# Altium schematic symbol library SMPS_12V&5V Out.SCHLIB: 14 symbols
Pins are listed as number, name and electrical type; pins without a type are passive.

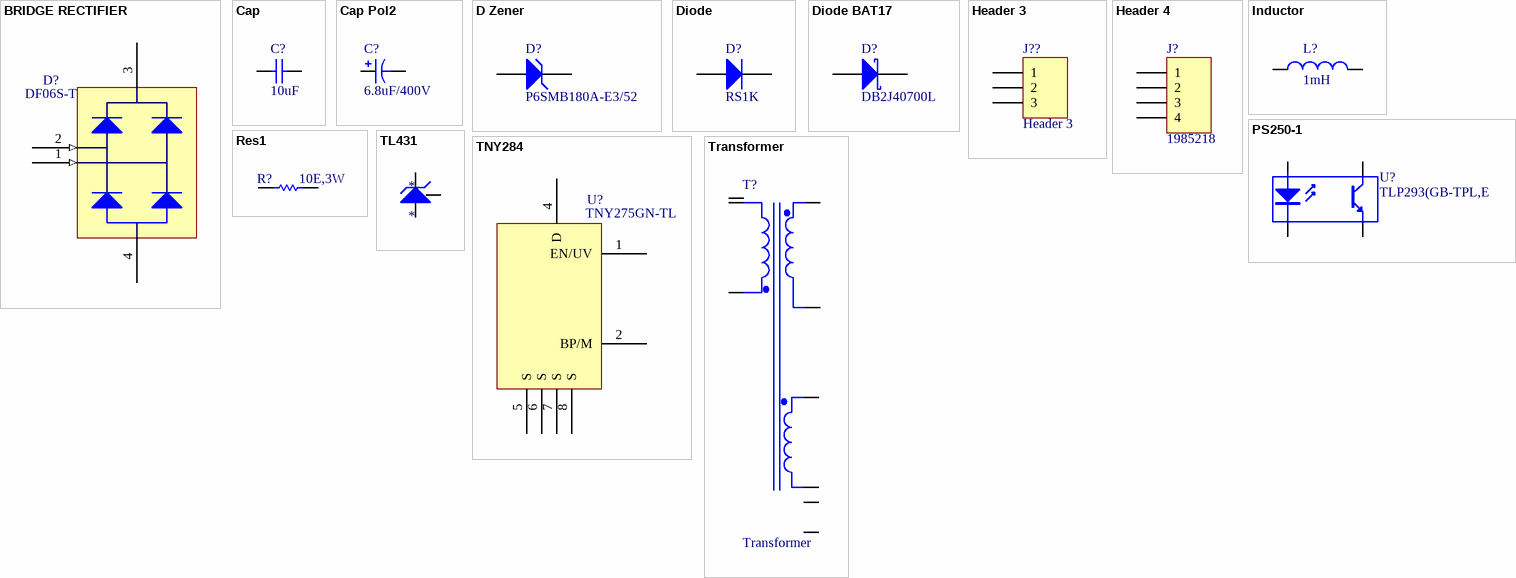
[diagram p0: symbols BRIDGE RECTIFIER to Transformer]

## BRIDGE RECTIFIER
designator D?, comment DF06S-T
RECT BRIDGE GPP 1A 600V DFS; Manufacturer: Diodes Incorporated; Diode Type: Single Phase; Supplier 1: Digi-Key; Supplier Part Number 1: DF06S-TDICT-ND; Manufacturer Part Number: DF06S-T; RoHS: RoHS Compliant; Category: Discrete Semiconductor Products; Stock 1: 67854; Pricing 1: 1=0.4, 10=0.345, 100=0.2573, 500=0.20216 (USD); Packaging: Cut Tape (CT); Part Status: Active; Voltage - Peak Reverse (Max): 600V; Current - DC Forward (If) (Max): 1A; Mounting Type: Surface Mount; Package / Case: 4-SMD, Gull Wing; Operating Temperature: -65°C ~ 150°C (TJ); Supplier Device Package: DF-S; ComponentLink1URL: http://www.diodes.com/_files/datasheets/ds17001.pdf; ComponentLink1Description: http://www.diodes.com/_files/datasheets/ds17001.pdf
footprint DF06S
pins: 1 (in), 2 (in), 3, 4

## Cap
designator C?, comment 10uF
CAP CER 10UF 16V X7R 1206; Manufacturer: TDK Corporation; Manufacturer Part Number: C3216X7R1C106K160AC; Tolerance: ±10%; Supplier 1: Digi-Key; Supplier Part Number 1: 445-4042-1-ND; RoHS: RoHS Compliant; Category: Capacitors; Stock 1: 270274; Pricing 1: 1=0.32, 10=0.222, 100=0.126, 500=0.08896, 1000=0.07785 (USD); Packaging: Cut Tape (CT); Part Status: Active; Voltage - Rated: 16V; Temperature Coefficient: X7R; Operating Temperature: -55°C ~ 125°C; Features: Low ESL; Ratings: -; Applications: General Purpose; Failure Rate: -; Mounting Type: Surface Mount, MLCC; Package / Case: 1206 (3216 Metric); Size / Dimension: 0.126" L x 0.063" W (3.20mm x 1.60mm); Height - Seated (Max): -; Thickness (Max): 0.071" (1.80mm); Lead Spacing: -; Lead Style: -; ComponentLink1URL: https://product.tdk.com/info/en/catalog/datasheets/mlcc_commercial_general_en.pdf; ComponentLink1Description: https://product.tdk.com/info/en/catalog/datasheets/mlcc_commercial_general_en.pdf
footprint R0805_2012 (0805 inch 2012 metric)
pins: 1, 2

## Cap Pol2
designator C?, comment 6.8uF/400V
CAP ALUM 6.8UF 20% 400V RADIAL; Manufacturer: Wurth Electronics Inc.; Manufacturer Part Number: 860021374009; Lifetime @ Temp.: 2000 Hrs @ 105°C; Polarization: Polar; Ripple Current - Low Frequency: 75mA @ 120Hz; Ripple Current - High Frequency: 127.5mA @ 100kHz; Supplier 1: Digi-Key; Supplier Part Number 1: 732-8887-1-ND; RoHS: RoHS Compliant; Category: Capacitors; Stock 1: 800; Pricing 1: 1=0.5, 50=0.427, 100=0.372, 250=0.331 (USD); Packaging: Cut Tape (CT); Part Status: Active; Tolerance: ±20%; ESR (Equivalent Series Resistance): -; Operating Temperature: -25°C ~ 105°C; Applications: General Purpose; Lead Spacing: 0.138" (3.50mm); Size / Dimension: 0.315" Dia (8.00mm); Height - Seated (Max): 0.610" (15.50mm); Surface Mount Land Size: -; Mounting Type: Through Hole; Package / Case: Radial, Can; ComponentLink1URL: http://katalog.we-online.de/pbs/datasheet/860021374009.pdf; ComponentLink1Description: http://katalog.we-online.de/pbs/datasheet/860021374009.pdf
footprint CAP 10MM DIA
pins: 1, 2
1 alternate drawing of the same symbol

## D Zener
designator D?, comment P6SMB180A-E3/52
TVS DIODE 154VWM 246VC SMB; Manufacturer: Vishay Semiconductor Diodes Division; Type: Zener; Unidirectional Channels: 1; Voltage - Reverse Standoff (Typ): 154V; Voltage - Breakdown (Min): 171V; Voltage - Clamping (Max) @ Ipp: 246V; Current - Peak Pulse (10/1000µs): 2.4A; Power - Peak Pulse: 600W; Power Line Protection: No; Supplier 1: Digi-Key; Supplier Part Number 1: P6SMB180A-E3/52GICT-ND; Manufacturer Part Number: P6SMB180A-E3/52; RoHS: RoHS Compliant; Category: Circuit Protection; Stock 1: 2770; Pricing 1: 1=0.46, 10=0.346, 25=0.3116, 100=0.2153, 250=0.18128 (USD); Packaging: Cut Tape (CT); Part Status: Active; Bidirectional Channels: -; Applications: General Purpose; Capacitance @ Frequency: -; Operating Temperature: -65°C ~ 150°C (TJ); Mounting Type: Surface Mount; Package / Case: DO-214AA, SMB; Supplier Device Package: DO-214AA (SMBJ); ComponentLink1URL: http://www.vishay.com/docs/88370/p6smb.pdf; ComponentLink1Description: http://www.vishay.com/docs/88370/p6smb.pdf
footprint P6SMB
pins: 1 A, 2 K

## Diode
designator D?, comment RS1K
DIODE GEN PURP 800V 1A SMA; Manufacturer: Fairchild Semiconductor; Diode Type: Standard; Voltage - Forward (Vf) (Max) @ If: 1.3V @ 1A; Speed: Fast Recovery =< 500ns, > 200mA (Io); Reverse Recovery Time (trr): 500ns; Current - Reverse Leakage @ Vr: 5µA @ 800V; Capacitance @ Vr, F: 10pF @ 4V, 1MHz; Supplier 1: Digi-Key; Supplier Part Number 1: RS1KFSCT-ND; Manufacturer Part Number: RS1K; RoHS: RoHS Compliant; Category: Discrete Semiconductor Products; Stock 1: 4801; Pricing 1: 1=0.35, 10=0.264, 100=0.1491, 500=0.09888, 1000=0.07584 (USD); Packaging: Cut Tape (CT); Part Status: Active; Voltage - DC Reverse (Vr) (Max): 800V; Current - Average Rectified (Io): 1A; Mounting Type: Surface Mount; Package / Case: DO-214AC, SMA; Supplier Device Package: SMA (DO-214AC); Operating Temperature - Junction: -55°C ~ 150°C; ComponentLink1URL: http://www.fairchildsemi.com/datasheets/RS/RS1A.pdf; ComponentLink1Description: http://www.fairchildsemi.com/datasheets/RS/RS1A.pdf
footprint SMA
pins: 1 A, 2 K

## Diode BAT17
designator D?, comment DB2J40700L
DIODE SCHOTTKY 40V 500MA SMINI2; Manufacturer: Panasonic Electronic Components; Voltage - Forward (Vf) (Max) @ If: 550mV @ 500mA; Speed: Fast Recovery =< 500ns, > 200mA (Io); Reverse Recovery Time (trr): 3.6ns; Current - Reverse Leakage @ Vr: 100µA @ 35V; Capacitance @ Vr, F: 10.5pF @ 10V, 1MHz; Supplier 1: Digi-Key; Supplier Part Number 1: DB2J40700LCT-ND; Manufacturer Part Number: DB2J40700L; RoHS: RoHS Compliant; Category: Discrete Semiconductor Products; Stock 1: 65907; Pricing 1: 1=0.44, 10=0.313, 25=0.2436, 100=0.1846, 250=0.1306, 500=0.10448, 1000=0.08011 (USD); Packaging: Cut Tape (CT); Part Status: Active; Diode Type: Schottky; Voltage - DC Reverse (Vr) (Max): 40V; Current - Average Rectified (Io): 500mA; Mounting Type: Surface Mount; Package / Case: SC-90, SOD-323F; Supplier Device Package: SMini2-F5-B; Operating Temperature - Junction: 125°C (Max); ComponentLink1URL: http://www.semicon.panasonic.co.jp/ds4/DB2J407_E.pdf; ComponentLink1Description: http://www.semicon.panasonic.co.jp/ds4/DB2J407_E.pdf
footprint SOD323
pins: A, K

## Header 3
designator J??
Header, 3-Pin; LatestRevisionDate: 17-Jul-2002; LatestRevisionNote: Re-released for DXP Platform.; Publisher: Altium Limited
footprint HDR1X3 (Connector; Header; 3 Position)
signal-integrity model Connector
pins: 1, 2, 3

## Header 4
designator J?, comment 1985218
TERM BLOCK PCB 4POS 3.5MM GREEN; Manufacturer: Phoenix Contact; Number of Levels: 1; Positions Per Level: 4; Pitch: 0.138" (3.50mm); Mating Orientation: 45° (135°) Angle with Board; Current: 2A; Voltage: 300V; Wire Gauge: 16-24 AWG; Wire Termination: Screwless - Spring Cage, Tension Clamp; Supplier 1: Digi-Key; Supplier Part Number 1: 277-1624-ND; Manufacturer Part Number: 1985218; RoHS: RoHS Compliant; Category: Connectors, Interconnects; Stock 1: 6092; Pricing 1: 1=0.54, 10=0.516, 50=0.4936, 100=0.4802, 250=0.4488, 500=0.4129, 1000=0.374 (USD); Packaging: Bulk; Part Status: Active; Mounting Type: Through Hole; Features: -; Color: Green; Operating Temperature: -; Housing Material: Polyamide (PA), Nylon; Contact Material - Plating: -; Clamp Material - Plating: -; Screw Material - Plating: -; Torque - Screw: -; Screw Thread: -; ComponentLink1URL: http://media.digikey.com/pdf/Data%20Sheets/Phoenix%20Contact%20PDFs/COMBICON%20Spring-Cage%20PCB%20Term.%20Blocks.pdf; ComponentLink1Description: http://media.digikey.com/pdf/Data%20Sheets/Phoenix%20Contact%20PDFs/COMBICON%20Spring-Cage%20PCB%20Term.%20Blocks.pdf
footprint 4 PIN WAGO CONNECTOR 3.5mmPitch
pins: 1, 2, 3, 4

## Inductor
designator L?, comment 1mH
FIXED IND 1MH 210MA 4.5 OHM SMD; Manufacturer: Bourns Inc.; Manufacturer Part Number: SDR0805-102KL; Type: Wirewound; Material - Core: Ferrite; Tolerance: ±10%; Current - Saturation: 340mA; Shielding: Unshielded; DC Resistance (DCR): 4.5 Ohm Max; Q @ Freq: 27 @ 252kHz; Frequency - Self Resonant: 3MHz; Frequency - Test: 1kHz; Supplier 1: Digi-Key; Supplier Part Number 1: SDR0805-102KLCT-ND; RoHS: RoHS Compliant; Category: Inductors, Coils, Chokes; Stock 1: 5025; Pricing 1: 1=0.57, 10=0.502, 25=0.466, 50=0.3942, 100=0.3584, 250=0.33688, 500=0.30106 (USD); Packaging: Cut Tape (CT); Part Status: Active; Inductance: 1mH; Current Rating: 210mA; Ratings: -; Operating Temperature: -40°C ~ 125°C; Mounting Type: Surface Mount; Package / Case: Nonstandard; Supplier Device Package: -; Size / Dimension: 0.307" L x 0.307" W (7.80mm x 7.80mm); Height - Seated (Max): 0.209" (5.30mm); ComponentLink1URL: http://www.bourns.com/docs/Product-Datasheets/SDR0805.pdf; ComponentLink1Description: http://www.bourns.com/docs/Product-Datasheets/SDR0805.pdf
footprint SDR0805-102KL
pins: 1, 2

## PS250-1
designator U?, comment TLP293(GB-TPL,E
OPTOISOLATOR 3.75KV TRANS 4-SO; Manufacturer: Toshiba Semiconductor and Storage; Number of Channels: 1; Voltage - Isolation: 3750Vrms; Current Transfer Ratio (Min): 100% @ 5mA; Current Transfer Ratio (Max): 600% @ 5mA; Turn On / Turn Off Time (Typ): 3µs, 3µs; Rise / Fall Time (Typ): 2µs, 3µs; Input Type: DC; Output Type: Transistor; Voltage - Output (Max): 80V; Current - Output / Channel: 50mA; Voltage - Forward (Vf) (Typ): 1.25V; Vce Saturation (Max): 300mV; Supplier 1: Digi-Key; Supplier Part Number 1: TLP293(GB-TPLECT-ND; Manufacturer Part Number: TLP293(GB-TPL,E; RoHS: RoHS Compliant; Category: Isolators; Stock 1: 92280; Pricing 1: 1=0.52, 10=0.377, 25=0.308, 100=0.2464, 250=0.20792, 500=0.1771, 1000=0.1386 (USD); Packaging: Cut Tape (CT); Part Status: Active; Current - DC Forward (If) (Max): 50mA; Operating Temperature: -55°C ~ 125°C; Mounting Type: Surface Mount; Package / Case: 4-SOIC (0.179", 4.55mm); Supplier Device Package: 4-SO; ComponentLink1URL: https://toshiba.semicon-storage.com/info/docget.jsp?did=14419&prodName=TLP293; ComponentLink1Description: https://toshiba.semicon-storage.com/info/docget.jsp?did=14419&prodName=TLP293
footprint P25S01L
pins: 1 A "Anode", 2 K "Cathode", 3 E "Emitter", 4 C "Collector"

## Res1
designator R?, comment 10E,3W
RES 10 OHM 3W 5% AXIAL; Manufacturer: Yageo; Manufacturer Part Number: FKN3WSJT-73-10R; Resistance (Ohms): 10; Supplier 1: Digi-Key; Supplier Part Number 1: YAG1228CT-ND; RoHS: RoHS Compliant; Category: Resistors; Stock 1: 7875; Pricing 1: 1=0.4, 10=0.304, 25=0.2312, 50=0.1718, 100=0.1278, 250=0.10796, 500=0.09254 (USD); Packaging: Cut Tape (CT); Part Status: Active; Tolerance: ±5%; Power (Watts): 3W; Composition: Wirewound; Features: Flame Proof, Fusible, Safety; Temperature Coefficient: -; Operating Temperature: -40°C ~ 155°C; Package / Case: Axial; Supplier Device Package: Axial; Size / Dimension: 0.197" Dia x 0.610" L (5.00mm x 15.50mm); Height - Seated (Max): -; Failure Rate: -; ComponentLink1URL: http://www.yageo.com/documents/recent/Yageo%20LR_FKN_2013.pdf; ComponentLink1Description: http://www.yageo.com/documents/recent/Yageo%20LR_FKN_2013.pdf
footprint FUSIBLE RESISTOR
pins: 1, 2

## TL431
designator *
pins: 1, 2 K, 3 A

## TNY284
designator U?, comment TNY275GN-TL
IC OFFLINE SWIT OVP OTP HV 8SMD; Manufacturer: Power Integrations; Output Isolation: Isolated; Internal Switch(s): Yes; Voltage - Breakdown: 700V; Topology: Flyback; Duty Cycle: 65%; Frequency - Switching: 132kHz; Fault Protection: Current Limiting, Open Loop, Over Temperature, Over Voltage, Short Circuit; Control Features: EN; Supplier 1: Digi-Key; Supplier Part Number 1: 596-1110-1-ND; Manufacturer Part Number: TNY275GN-TL; RoHS: RoHS Compliant; Category: Integrated Circuits (ICs); Stock 1: 33357; Pricing 1: 1=1.6, 10=1.442, 25=1.2876, 100=1.1588, 250=1.03, 500=0.90126 (USD); Packaging: Cut Tape (CT); Part Status: Active; Voltage - Supply (Vcc/Vdd): -; Operating Temperature: -40°C ~ 150°C (TJ); Package / Case: 8-SMD (7 Leads), Gull Wing; Supplier Device Package: SMD-8C; Mounting Type: Surface Mount; ComponentLink1URL: https://www.power.com/sites/default/files/product-docs/tny274-280.pdf; ComponentLink1Description: https://www.power.com/sites/default/files/product-docs/tny274-280.pdf
footprint TNY284DG
footprint R-8_N (SOIC, 8-Leads, Body 4.9x3.9mm, Pitch 1.27mm, IPC Medium Density)
pins: 1 EN/UV, 2 BP/M, 4 D, 5 S, 6 S, 7 S, 8 S

## Transformer
designator T?
footprint TRANSFORMER
pins: 1, 2, 3, 4, 5, 6, 7, 9, 10